# Altium schematic symbol library TPS65130.SchLib: 2 symbols
Pins are listed as number, name and electrical type; pins without a type are passive.

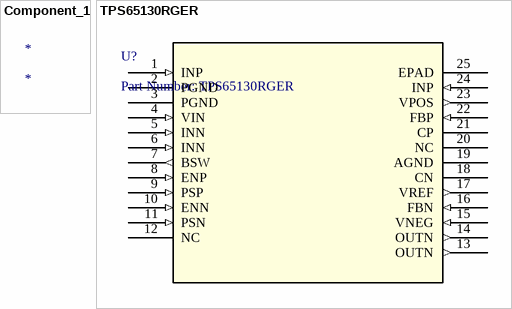
[diagram p0: symbols Component_1 to TPS65130RGER]

## Component_1
designator *

## TPS65130RGER
designator U?, comment Part Number: TPS65130RGER
No Description Available; Manufacturer: Texas Instruments; Built_By: EMA_UL_Team; Vendor: Texas Instruments; Manufacturer_Part_Number: TPS65130RGER; Copyright: Copyright (C) 2018 Accelerated Designs. All rights reserved; RefDes: RefDes; Type: DEV; Value: Value
footprint RGE24_2P45X2P45
pins: 1 INP (in), 2 PGND (power), 3 PGND (power), 4 VIN (in), 5 INN (in), 6 INN (in), 7 BSW (out), 8 ENP (in), 9 PSP (in), 10 ENN (in), 11 PSN (in), 12 NC, 13 OUTN (out), 14 OUTN (out), 15 VNEG (in), 16 FBN (in), 17 VREF (out), 18 CN, 19 AGND (power), 20 NC, 21 CP, 22 FBP (in), 23 VPOS (out), 24 INP (in), 25 EPAD (power)